# Altium integrated library Infineon_Power_Motor_Driver.IntLib: 100 symbols (part 2 of 7)
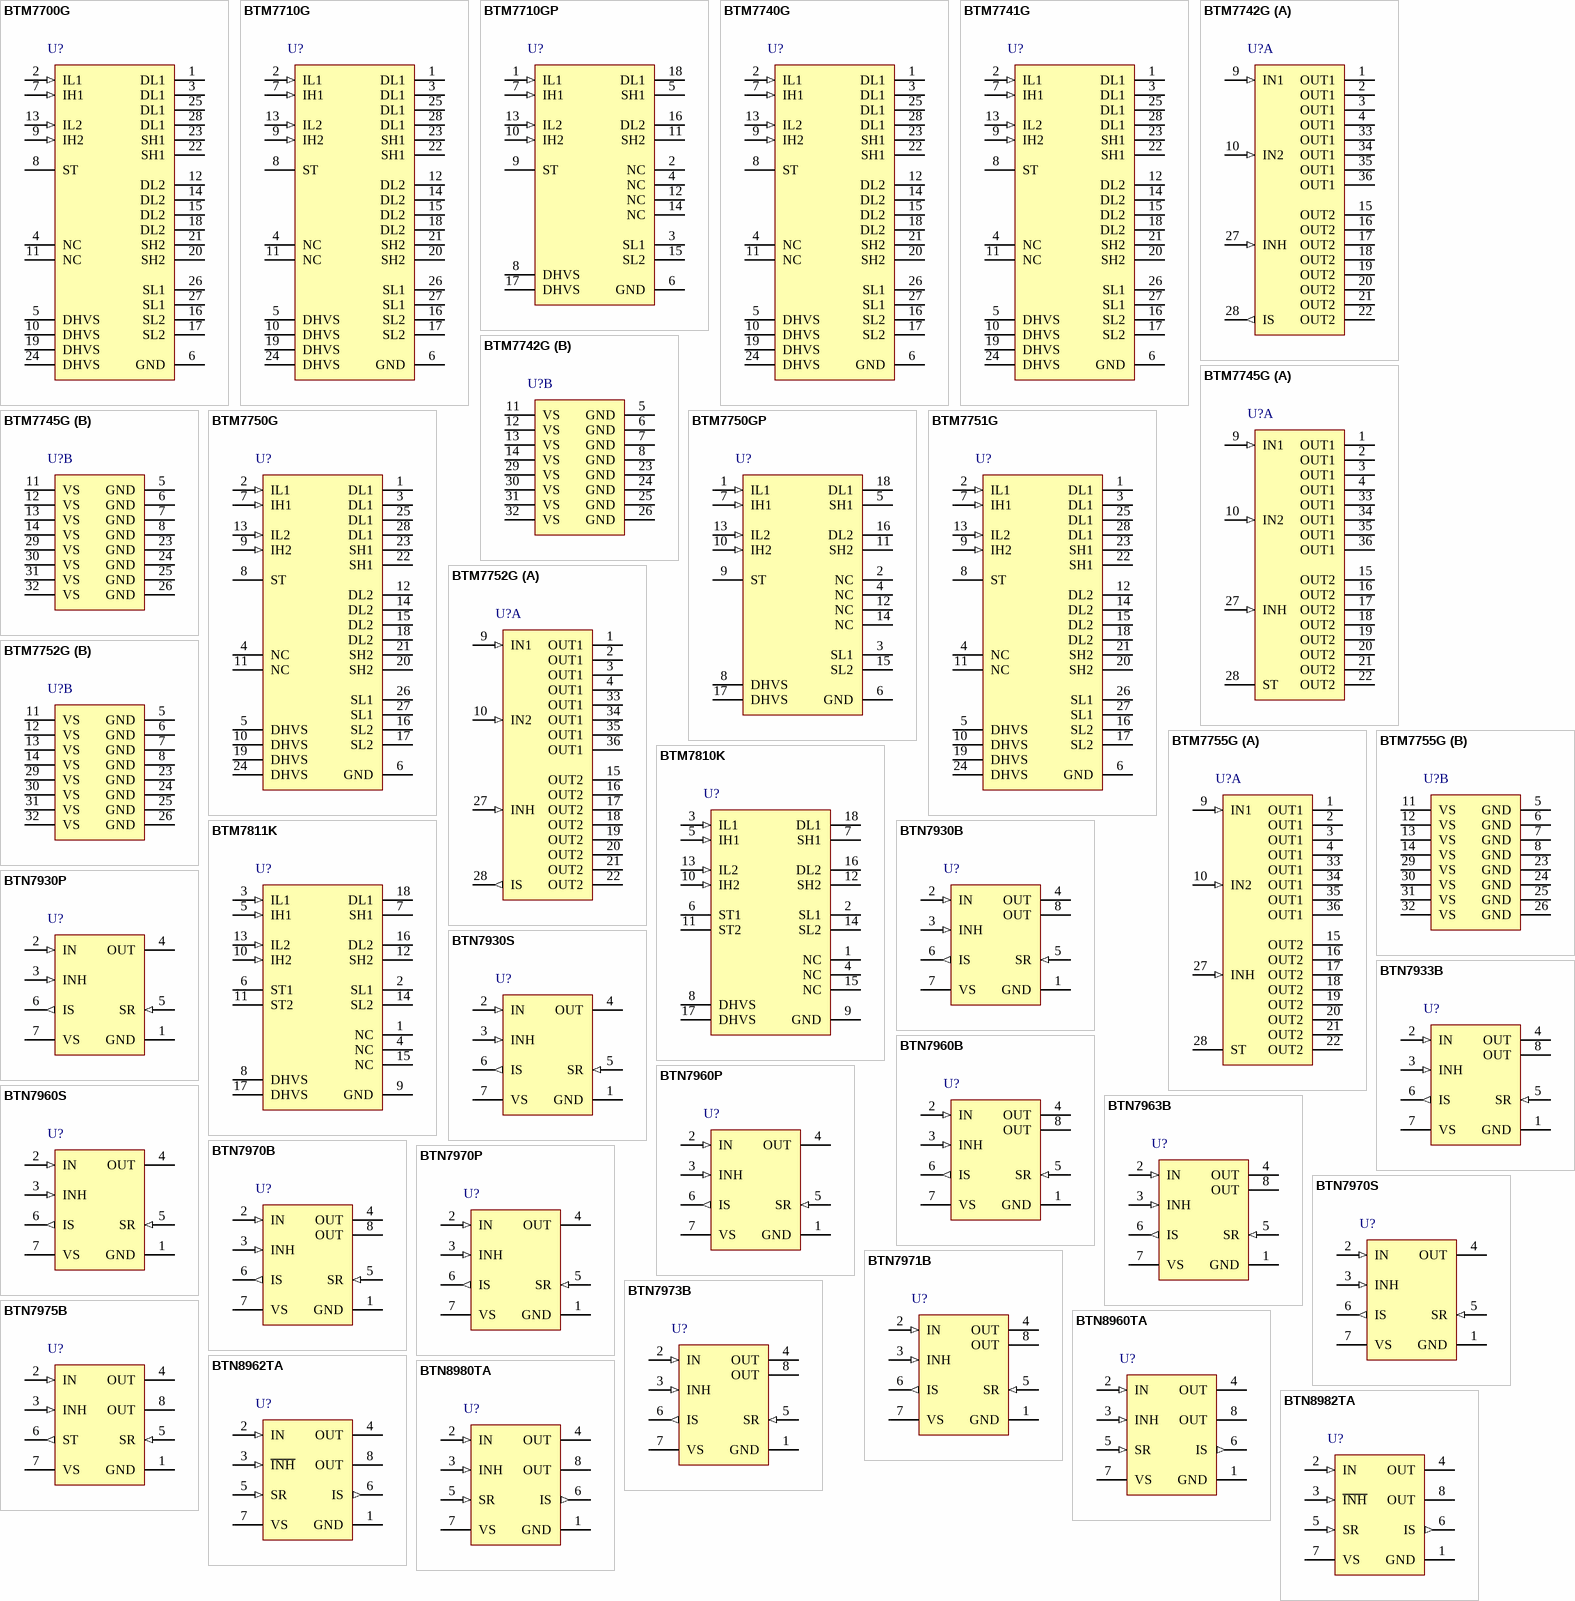
[diagram p5: symbols BTM7700G to BTN8982TA]

## BTN7930S
designator U?
High Current PN Half Bridge NovalithIC, 5.5 to 28 V, -40 to 150 degC, PG-TO220-7-12, Tube, Green; Manufacturer: Infineon; PartNumber: BTN7930S; Green: TRUE; ID(lim): 32 A; ID(lim) (min): 20 A; Iq (typ): 7 uA; Protect: OV, UV, OT, OC; RDS(on) (typ): 28.2 mOhm; VS (max): 45 V; DatasheetVersion: Rev. 1.1; PackageVersion: Jul-07; PackageReference: PG-TO220-7-12; PackageDescription: 7-Pin Plastic (Green) Transistor Single Outline Package, 10 x 9.25 mm Body, 1.27 mm Pitch; Supplier 1: Mouser; Supplier Part Number 1: 726-BTN7930S; Supplier 2: Digi-Key; Supplier Part Number 2: BTN7930S-ND; Group: NovalithIC; Halogen-free: TRUE; Inhibit: TRUE; Operating Range: 5.5 to 28 V; Mounting Technology: Through Hole; ComponentLink1Description: Manufacturer URL; ComponentLink1URL: http://www.infineon.com/; ComponentLink2Description: Datasheet; ComponentLink2URL: http://www.infineon.com/dgdl/BTN7930_DS_11.pdf?folderId=db3a3043156fd5730116144c5d101c30&fileId=db3a304316f66ee80117641dba046a6e&location=en.Products.Automotive_ICs.Motor_Drivers__Automotive_.Integrated_High_Current_Motor_Drivers__NovalithIC____Trilith_IC_.DATASHEET.BTN7930_DS_11.pdf; ComponentLink3Description: Package Specification; ComponentLink3URL: http://www.infineon.com/dgdl/TLE5205-2_DS_11%5B1%5D.pdf?folderId=db3a30431b3e89eb011bb632994f065b&fileId=db3a30431f848401011fc747c7a0797f&sId=db3a30433d68e984013d7d43135b5b6a
footprint INF-PG-TO220-7-12 (FM, 7-Leads, Body 10x4.4mm, Pitch 1.27mm)
pins: 1 GND (power) "Ground", 2 IN (in) "Input Defines whether high- or lowside switch is activated", 3 INH (in) "Inhibit When set to low device goes in sleep mode", 4 OUT (power) "Power output of the bridge", 5 SR (in) "Slew Rate The slew rate of the power switches can be adjusted by connecting a resistor between SR and GND", 6 IS (out) "Current Sense and Diagnostics", 7 VS (power) "Supply"

## BTN7933B
designator U?
High Current PN Half Bridge NovalithIC, 4.5 to 28 V, -40 to 150 degC, PG-TO263-7-1, Reel, Green; Manufacturer: Infineon; PartNumber: BTN7933B; Green: TRUE; ID(lim): 32 A; ID(lim) (min): 20 A; Iq (typ): 7 uA; Protect: OV(SCL), UV, OT, OC; RDS(on) (typ): 28 mOhm; VS (max): 40 V; DatasheetVersion: Rev. 1.0; PackageVersion: May-07; PackageReference: PG-TO263-7-1; PackageDescription: 7-Pin Plastic (Green) Transistor Single Outline Package, 9.25 x 10 mm Body, 1.27 mm Pitch; Supplier 1: Mouser; Supplier Part Number 1: 726-BTN7933B; Supplier 2: Digi-Key; Supplier Part Number 2: BTN7933B-ND; Group: NovalithIC; Halogen-free: TRUE; Inhibit: TRUE; Operating Range: 4.5 to 28 V; Mounting Technology: Surface Mount; ComponentLink1Description: Manufacturer URL; ComponentLink1URL: http://www.infineon.com/; ComponentLink2Description: Datasheet; ComponentLink2URL: http://www.infineon.com/dgdl/BTN7933B_DS_10.pdf?folderId=db3a304412b407950112b408e8c90004&fileId=db3a304325afd6e001262cf7009b428c&location=en.Products.Automotive_ICs.Motor_Drivers__Automotive_.Integrated_High_Current_Motor_Drivers__NovalithIC____Trilith_IC_.DATASHEET.BTN7933B_DS_10.pdf; ComponentLink3Description: Package Specification; ComponentLink3URL: http://www.infineon.com/dgdl/TLE5205-2_DS_11%5B1%5D.pdf?folderId=db3a30431b3e89eb011bb632994f065b&fileId=db3a30431f848401011fc747c7a0797f&sId=db3a30433d68e984013d7d43135b5b6a
footprint INF-PG-TO263-7-1_N (DPAK, 8-Leads, Body 10x9.25mm, Pitch 1.27mm, IPC Medium Density)
footprint INF-PG-TO263-7-1_L (DPAK, 8-Leads, Body 10x9.25mm, Pitch 1.27mm, IPC High Density)
footprint INF-PG-TO263-7-1_M (DPAK, 8-Leads, Body 10x9.25mm, Pitch 1.27mm, IPC Low Density)
pins: 1 GND (power) "Ground", 2 IN (in) "Input Defines whether high- or lowside switch is activated", 3 INH (in) "Inhibit When set to low device goes in sleep mode", 4 OUT (power) "Power output of the bridge", 5 SR (in) "Slew Rate The slew rate of the power switches can be adjusted by connecting a resistor between SR and GND", 6 IS (out) "Current Sense and Diagnostics", 7 VS (power) "Supply", 8 OUT (power) "Power output of the bridge"

## BTN7960B
designator U?
High Current PN Half Bridge NovalithIC, 5.5 to 28 V, -40 to 150 degC, PG-TO263-7-1, Reel, Green; Manufacturer: Infineon; PartNumber: BTN7960B; Green: TRUE; ID(lim): 47 A; ID(lim) (min): 33 A; Iq (typ): 7 uA; Protect: OV, UV, OT, OC; RDS(on) (typ): 14 mOhm; VS (max): 45 V; DatasheetVersion: Rev. 1.1; PackageVersion: May-07; PackageReference: PG-TO263-7-1; PackageDescription: 7-Pin Plastic (Green) Transistor Single Outline Package, 9.25 x 10 mm Body, 1.27 mm Pitch; Supplier 1: Mouser; Supplier Part Number 1: 726-BTN7960B; Supplier 2: Digi-Key; Supplier Part Number 2: BTN7960BTR-ND; Supplier 3: Digi-Key; Supplier Part Number 3: BTN7960BCT-ND; Supplier 4: Digi-Key; Supplier Part Number 4: BTN7960BDKR-ND; Group: NovalithIC; Halogen-free: TRUE; Inhibit: TRUE; Operating Range: 5.5 to 28 V; Mounting Technology: Surface Mount; ComponentLink1Description: Manufacturer URL; ComponentLink1URL: http://www.infineon.com/; ComponentLink2Description: Datasheet; ComponentLink2URL: http://www.infineon.com/dgdl/BTN7960_DS_11.pdf?folderId=db3a3043156fd5730116144c5d101c30&fileId=db3a304316f66ee80117642084e76a7c&location=en.Products.Automotive_ICs.Motor_Drivers__Automotive_.Integrated_High_Current_Motor_Drivers__NovalithIC____Trilith_IC_.DATASHEET.BTN7960_DS_11.pdf; ComponentLink3Description: Package Specification; ComponentLink3URL: http://www.infineon.com/dgdl/TLE5205-2_DS_11%5B1%5D.pdf?folderId=db3a30431b3e89eb011bb632994f065b&fileId=db3a30431f848401011fc747c7a0797f&sId=db3a30433d68e984013d7d43135b5b6a
footprint INF-PG-TO263-7-1_N (DPAK, 8-Leads, Body 10x9.25mm, Pitch 1.27mm, IPC Medium Density)
footprint INF-PG-TO263-7-1_L (DPAK, 8-Leads, Body 10x9.25mm, Pitch 1.27mm, IPC High Density)
footprint INF-PG-TO263-7-1_M (DPAK, 8-Leads, Body 10x9.25mm, Pitch 1.27mm, IPC Low Density)
pins: 1 GND (power) "Ground", 2 IN (in) "Input Defines whether high- or lowside switch is activated", 3 INH (in) "Inhibit When set to low device goes in sleep mode", 4 OUT (power) "Power output of the bridge", 5 SR (in) "Slew Rate The slew rate of the power switches can be adjusted by connecting a resistor between SR and GND", 6 IS (out) "Current Sense and Diagnostics", 7 VS (power) "Supply", 8 OUT (power) "Power output of the bridge"

## BTN7960P
designator U?
High Current PN Half Bridge NovalithIC, 5.5 to 28 V, -40 to 150 degC, PG-TO220-7-11, Tube, Green; Manufacturer: Infineon; PartNumber: BTN7960P; Green: TRUE; ID(lim): 47 A; ID(lim) (min): 33 A; Iq (typ): 7 uA; Protect: OV, UV, OT, OC; RDS(on) (typ): 17.6 mOhm; VS (max): 45 V; DatasheetVersion: Rev. 1.1; PackageVersion: Jul-07; PackageReference: PG-TO220-7-11; PackageDescription: 7-Pin Plastic (Green) Transistor Single Outline Package, 10 x 9.25 mm Body, 1.27 mm Pitch; Supplier 1: Mouser; Supplier Part Number 1: 726-BTN7960P; Supplier 2: Newark; Supplier Part Number 2: 47W3379; Supplier 3: Farnell; Supplier Part Number 3: 2215545; Supplier 4: Digi-Key; Supplier Part Number 4: BTN7960P-ND; Group: NovalithIC; Halogen-free: TRUE; Inhibit: TRUE; Operating Range: 5.5 to 28 V; Mounting Technology: Through Hole; ComponentLink1Description: Manufacturer URL; ComponentLink1URL: http://www.infineon.com/; ComponentLink2Description: Datasheet; ComponentLink2URL: http://www.infineon.com/dgdl/BTN7960_DS_11.pdf?folderId=db3a3043156fd5730116144c5d101c30&fileId=db3a304316f66ee80117642084e76a7c&location=en.Products.Automotive_ICs.Motor_Drivers__Automotive_.Integrated_High_Current_Motor_Drivers__NovalithIC____Trilith_IC_.DATASHEET.BTN7960_DS_11.pdf; ComponentLink3Description: Package Specification; ComponentLink3URL: http://www.infineon.com/dgdl/TLE5205-2_DS_11%5B1%5D.pdf?folderId=db3a30431b3e89eb011bb632994f065b&fileId=db3a30431f848401011fc747c7a0797f&sId=db3a30433d68e984013d7d43135b5b6a
footprint INF-PG-TO220-7-11 (FM, 7-Leads, Body 10x9.25mm, Pitch 1.27mm)
pins: 1 GND (power) "Ground", 2 IN (in) "Input Defines whether high- or lowside switch is activated", 3 INH (in) "Inhibit When set to low device goes in sleep mode", 4 OUT (power) "Power output of the bridge", 5 SR (in) "Slew Rate The slew rate of the power switches can be adjusted by connecting a resistor between SR and GND", 6 IS (out) "Current Sense and Diagnostics", 7 VS (power) "Supply"

## BTN7960S
designator U?
High Current PN Half Bridge NovalithIC, 5.5 to 28 V, -40 to 150 degC, PG-TO220-7-12, Tube, Green; Manufacturer: Infineon; PartNumber: BTN7960S; Green: TRUE; ID(lim): 47 A; ID(lim) (min): 33 A; Iq (typ): 7 uA; Protect: OV, UV, OT, OC; RDS(on) (typ): 16.2 mOhm; VS (max): 45 V; DatasheetVersion: Rev. 1.1; PackageVersion: Jul-07; PackageReference: PG-TO220-7-12; PackageDescription: 7-Pin Plastic (Green) Transistor Single Outline Package, 10 x 9.25 mm Body, 1.27 mm Pitch; Supplier 1: Mouser; Supplier Part Number 1: 726-BTN7960S; Supplier 2: Digi-Key; Supplier Part Number 2: BTN7960S-ND; Group: NovalithIC; Halogen-free: TRUE; Inhibit: TRUE; Operating Range: 5.5 to 28 V; Mounting Technology: Through Hole; ComponentLink1Description: Manufacturer URL; ComponentLink1URL: http://www.infineon.com/; ComponentLink2Description: Datasheet; ComponentLink2URL: http://www.infineon.com/dgdl/BTN7960_DS_11.pdf?folderId=db3a3043156fd5730116144c5d101c30&fileId=db3a304316f66ee80117642084e76a7c&location=en.Products.Automotive_ICs.Motor_Drivers__Automotive_.Integrated_High_Current_Motor_Drivers__NovalithIC____Trilith_IC_.DATASHEET.BTN7960_DS_11.pdf; ComponentLink3Description: Package Specification; ComponentLink3URL: http://www.infineon.com/dgdl/TLE5205-2_DS_11%5B1%5D.pdf?folderId=db3a30431b3e89eb011bb632994f065b&fileId=db3a30431f848401011fc747c7a0797f&sId=db3a30433d68e984013d7d43135b5b6a
footprint INF-PG-TO220-7-12 (FM, 7-Leads, Body 10x4.4mm, Pitch 1.27mm)
pins: 1 GND (power) "Ground", 2 IN (in) "Input Defines whether high- or lowside switch is activated", 3 INH (in) "Inhibit When set to low device goes in sleep mode", 4 OUT (power) "Power output of the bridge", 5 SR (in) "Slew Rate The slew rate of the power switches can be adjusted by connecting a resistor between SR and GND", 6 IS (out) "Current Sense and Diagnostics", 7 VS (power) "Supply"

## BTN7963B
designator U?
High Current PN Half Bridge NovalithIC, 4.5 to 28 V, -40 to 150 degC, PG-TO263-7-1, Reel, Green; Manufacturer: Infineon; PartNumber: BTN7963B; Green: TRUE; ID(lim): 47 A; ID(lim) (min): 33 A; Iq (typ): 7 uA; Protect: OV(SCL), UV, OT, OC; RDS(on) (typ): 16 mOhm; VS (max): 40 V; DatasheetVersion: Rev. 1.0; PackageVersion: May-07; PackageReference: PG-TO263-7-1; PackageDescription: 7-Pin Plastic (Green) Transistor Single Outline Package, 9.25 x 10 mm Body, 1.27 mm Pitch; Supplier 1: Mouser; Supplier Part Number 1: 726-BTN7963B; Supplier 2: Digi-Key; Supplier Part Number 2: BTN7963B-ND; Group: NovalithIC; Halogen-free: TRUE; Inhibit: TRUE; Operating Range: 4.5 to 28 V; Mounting Technology: Surface Mount; ComponentLink1Description: Manufacturer URL; ComponentLink1URL: http://www.infineon.com/; ComponentLink2Description: Datasheet; ComponentLink2URL: http://www.infineon.com/dgdl/BTN7963B_DS_10.pdf?folderId=db3a304412b407950112b408e8c90004&fileId=db3a304325afd6e001262cd8fe20427c&location=en.Products.Automotive_ICs.Motor_Drivers__Automotive_.Integrated_High_Current_Motor_Drivers__NovalithIC____Trilith_IC_.DATASHEET.BTN7963B_DS_10.pdf; ComponentLink3Description: Package Specification; ComponentLink3URL: http://www.infineon.com/dgdl/TLE5205-2_DS_11%5B1%5D.pdf?folderId=db3a30431b3e89eb011bb632994f065b&fileId=db3a30431f848401011fc747c7a0797f&sId=db3a30433d68e984013d7d43135b5b6a
footprint INF-PG-TO263-7-1_N (DPAK, 8-Leads, Body 10x9.25mm, Pitch 1.27mm, IPC Medium Density)
footprint INF-PG-TO263-7-1_L (DPAK, 8-Leads, Body 10x9.25mm, Pitch 1.27mm, IPC High Density)
footprint INF-PG-TO263-7-1_M (DPAK, 8-Leads, Body 10x9.25mm, Pitch 1.27mm, IPC Low Density)
pins: 1 GND (power) "Ground", 2 IN (in) "Input Defines whether high- or lowside switch is activated", 3 INH (in) "Inhibit When set to low device goes in sleep mode", 4 OUT (power) "Power output of the bridge", 5 SR (in) "Slew Rate The slew rate of the power switches can be adjusted by connecting a resistor between SR and GND", 6 IS (out) "Current Sense and Diagnostics", 7 VS (power) "Supply", 8 OUT (power) "Power output of the bridge"

## BTN7970B
designator U?
High Current PN Half Bridge NovalithIC, 5.5 to 28 V, -40 to 150 degC, PG-TO263-7-1, Reel, Green; Manufacturer: Infineon; PartNumber: BTN7970B; Green: TRUE; ID(lim): 70 A; ID(lim) (min): 50 A; Iq (typ): 7 uA; Protect: OV, UV, OT, OC; RDS(on) (typ): 16 m Ohm; VS (max): 45 V; DatasheetVersion: Rev. 1.1; PackageVersion: May-07; PackageReference: PG-TO263-7-1; PackageDescription: 7-Pin Plastic (Green) Transistor Single Outline Package, 9.25 x 10 mm Body, 1.27 mm Pitch; Supplier 1: Mouser; Supplier Part Number 1: 726-BTN7970B; Supplier 2: Digi-Key; Supplier Part Number 2: BTN7970BTR-ND; Supplier 3: Digi-Key; Supplier Part Number 3: BTN7970BCT-ND; Supplier 4: Digi-Key; Supplier Part Number 4: BTN7970BDKR-ND; Group: NovalithIC; Halogen-free: TRUE; Inhibit: TRUE; Operating Range: 5.5 to 28 V; Mounting Technology: Surface Mount; ComponentLink1Description: Manufacturer URL; ComponentLink1URL: http://www.infineon.com/; ComponentLink2Description: Datasheet; ComponentLink2URL: http://www.infineon.com/dgdl/BTN7970_DS_11.pdf?folderId=db3a3043156fd5730116144c5d101c30&fileId=db3a304316f66ee80117642373746a89&location=en.Products.Automotive_ICs.Motor_Drivers__Automotive_.Integrated_High_Current_Motor_Drivers__NovalithIC____Trilith_IC_.DATASHEET.BTN7970_DS_11.pdf; ComponentLink3Description: Package Specification; ComponentLink3URL: http://www.infineon.com/dgdl/TLE5205-2_DS_11%5B1%5D.pdf?folderId=db3a30431b3e89eb011bb632994f065b&fileId=db3a30431f848401011fc747c7a0797f&sId=db3a30433d68e984013d7d43135b5b6a
footprint INF-PG-TO263-7-1_N (DPAK, 8-Leads, Body 10x9.25mm, Pitch 1.27mm, IPC Medium Density)
footprint INF-PG-TO263-7-1_L (DPAK, 8-Leads, Body 10x9.25mm, Pitch 1.27mm, IPC High Density)
footprint INF-PG-TO263-7-1_M (DPAK, 8-Leads, Body 10x9.25mm, Pitch 1.27mm, IPC Low Density)
pins: 1 GND (power) "Ground", 2 IN (in) "Input Defines whether high- or lowside switch is activated", 3 INH (in) "Inhibit When set to low device goes in sleep mode", 4 OUT (power) "Power output of the bridge", 5 SR (in) "Slew Rate The slew rate of the power switches can be adjusted by connecting a resistor between SR and GND", 6 IS (out) "Current Sense and Diagnostics", 7 VS (power) "Supply", 8 OUT (power) "Power output of the bridge"

## BTN7970P
designator U?
High Current PN Half Bridge NovalithIC, 5.5 to 28 V, -40 to 150 degC, PG-TO220-7-11, Tube, Green; Manufacturer: Infineon; PartNumber: BTN7970P; Green: TRUE; ID(lim): 70 A; ID(lim) (min): 50 A; Iq (typ): 7 uA; Protect: OV, UV, OT, OC; RDS(on) (typ): 17.6 m Ohm; VS (max): 45 V; DatasheetVersion: Rev. 1.1; PackageVersion: Jul-07; PackageReference: PG-TO220-7-11; PackageDescription: 7-Pin Plastic (Green) Transistor Single Outline Package, 10 x 9.25 mm Body, 1.27 mm Pitch; Supplier 1: Mouser; Supplier Part Number 1: 726-BTN7970P; Supplier 2: Newark; Supplier Part Number 2: 47W3380; Supplier 3: Farnell; Supplier Part Number 3: 2215543; Supplier 4: Digi-Key; Supplier Part Number 4: BTN7970P-ND; Group: NovalithIC; Halogen-free: TRUE; Inhibit: TRUE; Operating Range: 5.5 to 28 V; Mounting Technology: Through Hole; ComponentLink1Description: Manufacturer URL; ComponentLink1URL: http://www.infineon.com/; ComponentLink2Description: Datasheet; ComponentLink2URL: http://www.infineon.com/dgdl/BTN7970_DS_11.pdf?folderId=db3a3043156fd5730116144c5d101c30&fileId=db3a304316f66ee80117642373746a89&location=en.Products.Automotive_ICs.Motor_Drivers__Automotive_.Integrated_High_Current_Motor_Drivers__NovalithIC____Trilith_IC_.DATASHEET.BTN7970_DS_11.pdf; ComponentLink3Description: Package Specification; ComponentLink3URL: http://www.infineon.com/dgdl/TLE5205-2_DS_11%5B1%5D.pdf?folderId=db3a30431b3e89eb011bb632994f065b&fileId=db3a30431f848401011fc747c7a0797f&sId=db3a30433d68e984013d7d43135b5b6a
footprint INF-PG-TO220-7-11 (FM, 7-Leads, Body 10x9.25mm, Pitch 1.27mm)
pins: 1 GND (power) "Ground", 2 IN (in) "Input Defines whether high- or lowside switch is activated", 3 INH (in) "Inhibit When set to low device goes in sleep mode", 4 OUT (power) "Power output of the bridge", 5 SR (in) "Slew Rate The slew rate of the power switches can be adjusted by connecting a resistor between SR and GND", 6 IS (out) "Current Sense and Diagnostics", 7 VS (power) "Supply"

## BTN7970S
designator U?
High Current PN Half Bridge NovalithIC, 5.5 to 28 V, -40 to 150 degC, PG-TO220-7-12, Tube, Green; Manufacturer: Infineon; PartNumber: BTN7970S; Green: TRUE; ID(lim): 70 A; ID(lim) (min): 50 A; Iq (typ): 7 uA; Protect: OV, UV, OT, OC; RDS(on) (typ): 16.2 m Ohm; VS (max): 45 V; DatasheetVersion: Rev. 1.1; PackageVersion: Jul-07; PackageReference: PG-TO220-7-12; PackageDescription: 7-Pin Plastic (Green) Transistor Single Outline Package, 10 x 9.25 mm Body, 1.27 mm Pitch; Supplier 1: Mouser; Supplier Part Number 1: 726-BTN7970S; Supplier 2: Digi-Key; Supplier Part Number 2: BTN7970S-ND; Group: NovalithIC; Halogen-free: TRUE; Inhibit: TRUE; Operating Range: 5.5 to 28 V; Mounting Technology: Through Hole; ComponentLink1Description: Manufacturer URL; ComponentLink1URL: http://www.infineon.com/; ComponentLink2Description: Datasheet; ComponentLink2URL: http://www.infineon.com/dgdl/BTN7970_DS_11.pdf?folderId=db3a3043156fd5730116144c5d101c30&fileId=db3a304316f66ee80117642373746a89&location=en.Products.Automotive_ICs.Motor_Drivers__Automotive_.Integrated_High_Current_Motor_Drivers__NovalithIC____Trilith_IC_.DATASHEET.BTN7970_DS_11.pdf; ComponentLink3Description: Package Specification; ComponentLink3URL: http://www.infineon.com/dgdl/TLE5205-2_DS_11%5B1%5D.pdf?folderId=db3a30431b3e89eb011bb632994f065b&fileId=db3a30431f848401011fc747c7a0797f&sId=db3a30433d68e984013d7d43135b5b6a
footprint INF-PG-TO220-7-12 (FM, 7-Leads, Body 10x4.4mm, Pitch 1.27mm)
pins: 1 GND (power) "Ground", 2 IN (in) "Input Defines whether high- or lowside switch is activated", 3 INH (in) "Inhibit When set to low device goes in sleep mode", 4 OUT (power) "Power output of the bridge", 5 SR (in) "Slew Rate The slew rate of the power switches can be adjusted by connecting a resistor between SR and GND", 6 IS (out) "Current Sense and Diagnostics", 7 VS (power) "Supply"

## BTN7971B
designator U?
High Current PN Half Bridge NovalithIC, 4.5 to 28 V, -40 to 150 degC, PG-TO263-7-1, Reel, Green; Manufacturer: Infineon; PartNumber: BTN7971B; Green: TRUE; ID(lim): 70 A; ID(lim) (min): 50 A; Iq (typ): 7 uA; Protect: OV, UV, OT, OC; RDS(on) (typ): 16 m Ohm; VS (max): 45 V; DatasheetVersion: Rev. 2.0; PackageVersion: May-07; PackageReference: PG-TO263-7-1; PackageDescription: 7-Pin Plastic (Green) Transistor Single Outline Package, 9.25 x 10 mm Body, 1.27 mm Pitch; Supplier 1: Mouser; Supplier Part Number 1: 726-BTN7971B; Supplier 2: Digi-Key; Supplier Part Number 2: BTN7971BTR-ND; Supplier 3: Digi-Key; Supplier Part Number 3: BTN7971BCT-ND; Supplier 4: Digi-Key; Supplier Part Number 4: BTN7971BDKR-ND; Group: NovalithIC; Halogen-free: TRUE; Inhibit: TRUE; Operating Range: 4.5 to 28 V; Mounting Technology: Surface Mount; ComponentLink1Description: Manufacturer URL; ComponentLink1URL: http://www.infineon.com/; ComponentLink2Description: Datasheet; ComponentLink2URL: http://www.infineon.com/dgdl/BTN7971B_DS_20.pdf?folderId=db3a3043156fd5730116144c5d101c30&fileId=db3a30431add1d95011aee02ab870358&location=en.Products.Automotive_ICs.Motor_Drivers__Automotive_.Integrated_High_Current_Motor_Drivers__NovalithIC____Trilith_IC_.DATASHEET.BTN7971B_DS_20.pdf; ComponentLink3Description: Package Specification; ComponentLink3URL: http://www.infineon.com/dgdl/TLE5205-2_DS_11%5B1%5D.pdf?folderId=db3a30431b3e89eb011bb632994f065b&fileId=db3a30431f848401011fc747c7a0797f&sId=db3a30433d68e984013d7d43135b5b6a
footprint INF-PG-TO263-7-1_N (DPAK, 8-Leads, Body 10x9.25mm, Pitch 1.27mm, IPC Medium Density)
footprint INF-PG-TO263-7-1_L (DPAK, 8-Leads, Body 10x9.25mm, Pitch 1.27mm, IPC High Density)
footprint INF-PG-TO263-7-1_M (DPAK, 8-Leads, Body 10x9.25mm, Pitch 1.27mm, IPC Low Density)
pins: 1 GND (power) "Ground", 2 IN (in) "Input Defines whether high- or lowside switch is activated", 3 INH (in) "Inhibit When set to low device goes in sleep mode", 4 OUT (power) "Power output of the bridge", 5 SR (in) "Slew Rate The slew rate of the power switches can be adjusted by connecting a resistor between SR and GND", 6 IS (out) "Current Sense and Diagnostics", 7 VS (power) "Supply", 8 OUT (power) "Power output of the bridge"

## BTN7973B
designator U?
High Current PN Half Bridge NovalithIC, 4.5 to 28 V, -40 to 150 degC, PG-TO263-7-1, Reel, Green; Manufacturer: Infineon; PartNumber: BTN7973B; Green: TRUE; ID(lim): 70 A; ID(lim) (min): 50 A; Iq (typ): 7 uA; Protect: OV(SCL), UV, OT, OC; RDS(on) (typ): 16 m Ohm; VS (max): 40 V; DatasheetVersion: Rev. 1.0; PackageVersion: May-07; PackageReference: PG-TO263-7-1; PackageDescription: 7-Pin Plastic (Green) Transistor Single Outline Package, 9.25 x 10 mm Body, 1.27 mm Pitch; Supplier 1: Mouser; Supplier Part Number 1: 726-BTN7973B; Supplier 2: Digi-Key; Supplier Part Number 2: BTN7973B-ND; Group: NovalithIC; Halogen-free: TRUE; Inhibit: TRUE; Operating Range: 4.5 to 28 V; Mounting Technology: Surface Mount; ComponentLink1Description: Manufacturer URL; ComponentLink1URL: http://www.infineon.com/; ComponentLink2Description: Datasheet; ComponentLink2URL: http://www.infineon.com/dgdl/BTN7973B_DS_10.pdf?folderId=db3a304412b407950112b408e8c90004&fileId=db3a304325afd6e001262cc953af426c&location=en.Products.Automotive_ICs.Motor_Drivers__Automotive_.Integrated_High_Current_Motor_Drivers__NovalithIC____Trilith_IC_.DATASHEET.BTN7973B_DS_10.pdf; ComponentLink3Description: Package Specification; ComponentLink3URL: http://www.infineon.com/dgdl/TLE5205-2_DS_11%5B1%5D.pdf?folderId=db3a30431b3e89eb011bb632994f065b&fileId=db3a30431f848401011fc747c7a0797f&sId=db3a30433d68e984013d7d43135b5b6a
footprint INF-PG-TO263-7-1_N (DPAK, 8-Leads, Body 10x9.25mm, Pitch 1.27mm, IPC Medium Density)
footprint INF-PG-TO263-7-1_L (DPAK, 8-Leads, Body 10x9.25mm, Pitch 1.27mm, IPC High Density)
footprint INF-PG-TO263-7-1_M (DPAK, 8-Leads, Body 10x9.25mm, Pitch 1.27mm, IPC Low Density)
pins: 1 GND (power) "Ground", 2 IN (in) "Input Defines whether high- or lowside switch is activated", 3 INH (in) "Inhibit When set to low device goes in sleep mode", 4 OUT (power) "Power output of the bridge", 5 SR (in) "Slew Rate The slew rate of the power switches can be adjusted by connecting a resistor between SR and GND", 6 IS (out) "Current Sense and Diagnostics", 7 VS (power) "Supply", 8 OUT (power) "Power output of the bridge"

## BTN7975B
designator U?
High Current PN Half Bridge NovalithIC, 5.5 to 28 V, -40 to 150 degC, PG-TO263-7-1, Reel, Green; Manufacturer: Infineon; PartNumber: BTN7975B; Green: TRUE; ID(lim): 70 A; ID(lim) (min): 50 A; Iq (typ): 7 uA; Protect: OV, UV, OT, OC; RDS(on) (typ): 16 m Ohm; VS (max): 45 V; DatasheetVersion: Rev. 1.0; PackageVersion: May-07; PackageReference: PG-TO263-7-1; PackageDescription: 7-Pin Plastic (Green) Transistor Single Outline Package, 9.25 x 10 mm Body, 1.27 mm Pitch; Supplier 1: Mouser; Supplier Part Number 1: N/A; Group: NovalithIC; Halogen-free: TRUE; Inhibit: TRUE; Operating Range: 5.5 to 28 V; Mounting Technology: Surface Mount; ComponentLink1Description: Manufacturer URL; ComponentLink1URL: http://www.infineon.com/; ComponentLink2Description: Datasheet; ComponentLink2URL: http://www.infineon.com/dgdl/BTN7975B_DS_10.pdf?folderId=db3a3043156fd5730116144c5d101c30&fileId=db3a304320d39d590121f2ad366c0a97&location=en.Products.Automotive_ICs.Motor_Drivers__Automotive_.Integrated_High_Current_Motor_Drivers__NovalithIC____Trilith_IC_.DATASHEET.BTN7975B_DS_10.pdf; ComponentLink3Description: Package Specification; ComponentLink3URL: http://www.infineon.com/dgdl/TLE5205-2_DS_11%5B1%5D.pdf?folderId=db3a30431b3e89eb011bb632994f065b&fileId=db3a30431f848401011fc747c7a0797f&sId=db3a30433d68e984013d7d43135b5b6a
footprint INF-PG-TO263-7-1_N (DPAK, 8-Leads, Body 10x9.25mm, Pitch 1.27mm, IPC Medium Density)
footprint INF-PG-TO263-7-1_L (DPAK, 8-Leads, Body 10x9.25mm, Pitch 1.27mm, IPC High Density)
footprint INF-PG-TO263-7-1_M (DPAK, 8-Leads, Body 10x9.25mm, Pitch 1.27mm, IPC Low Density)
pins: 1 GND (power) "Ground", 2 IN (in) "Input Defines whether high- or lowside switch is activated", 3 INH (in) "Inhibit When set to low device goes in sleep mode", 4 OUT (power) "Power output of the bridge", 5 SR (in) "Slew Rate The slew rate of the power switches can be adjusted by connecting a resistor between SR and GND", 6 ST (out) "Status Flag", 7 VS (power) "Supply", 8 OUT (power) "Power output of the bridge"

## BTN8960TA
designator U?
High Current PN Half Bridge NovalithIC, -40 to 150 degC, PG-TO263-7-1, Reel, Green; Manufacturer: Infineon; PartNumber: BTN8960TA; Green: TRUE; High Side Switch: 0.6 K/W; Iq (typ): 7 uA; Quiescent Current (max.): 13 uA; DatasheetVersion: Rev. 1.0; PackageVersion: May-07; PackageReference: PG-TO263-7-1; PackageDescription: 7-Pin Plastic (Green) Transistor Single Outline Package, 9.25 x 10 mm Body, 1.27 mm Pitch; Halogen-free: TRUE; Packing: Reel; Mounting Technology: Surface Mount; ComponentLink1Description: Manufacturer URL; ComponentLink1URL: http://www.infineon.com/; ComponentLink2Description: Datasheet; ComponentLink2URL: http://www.infineon.com/dgdl/BTN8960TA-Data-Sheet-rev10-Infineon.pdf?folderId=db3a30431f848401011fcbf221ff04c3&fileId=db3a30433da668b6013da699aef80054; ComponentLink3Description: Package Specification; ComponentLink3URL: http://www.infineon.com/dgdl/TLE5205-2_DS_11%5B1%5D.pdf?folderId=db3a30431b3e89eb011bb632994f065b&fileId=db3a30431f848401011fc747c7a0797f&sId=db3a30433d68e984013d7d43135b5b6a
footprint INF-PG-TO263-7-1_N (DPAK, 8-Leads, Body 10x9.25mm, Pitch 1.27mm, IPC Medium Density)
footprint INF-PG-TO263-7-1_L (DPAK, 8-Leads, Body 10x9.25mm, Pitch 1.27mm, IPC High Density)
footprint INF-PG-TO263-7-1_M (DPAK, 8-Leads, Body 10x9.25mm, Pitch 1.27mm, IPC Low Density)
pins: 1 GND (power) "Ground", 2 IN (in) "Input Defines whether high- or lowside switch is activated", 3 INH (in) "Inhibit  When set to low device goes in sleep mode", 4 OUT (power) "Power output of the bridge", 5 SR (in) "Slew Rate The slew rate of the power switches can be adjusted by connecting  a resistor between SR and GND", 6 IS (out) "Current Sense and Diagnostics", 7 VS (power) "Supply", 8 OUT (power) "Power output of the bridge"

## BTN8962TA
designator U?
High Current PN Half Bridge, 5.5 to 40 V, 7 uA Iq, PG-TO263-7, Reel, Green; Manufacturer: Infineon; PartNumber: BTN8962TA; Diagnosis: OT, OC-failure flag, current sense; Green: TRUE; Group: NovalithIC; ID(lim): 42 A; ID(lim) (min): 30 A; Iq (typ): 7 uA; Protect: UV, OT, OC; RDS (on): 14.2; DatasheetVersion: Rev. 1.0; PackageVersion: May-07; PackageReference: PG-TO263-7-1; PackageDescription: 7-Pin Plastic (Green) Transistor Single Outline Package, 9.25 x 10 mm Body, 1.27 mm Pitch; Supplier 1: Mouser; Supplier Part Number 1: N/A; Halogen-free: TRUE; Inhibit: TRUE; Mounting: SMT; Operating Range: 5.5 to 40 V; Packing: Reel; Mounting Technology: Surface Mount; ComponentLink1Description: Manufacturer URL; ComponentLink1URL: http://www.infineon.com/; ComponentLink2Description: Datasheet; ComponentLink2URL: http://www.infineon.com/dgdl/BTN8962TA-Data-Sheet-rev10-Infineon.pdf?folderId=db3a30431ff98815012060aedcd46179&fileId=db3a30433fa9412f013fbe2d247a7bf5; ComponentLink3Description: Package Specification; ComponentLink3URL: http://www.infineon.com/dgdl/BTN8982TA-Data-Sheet-rev10-Infineon.pdf?folderId=db3a30431ff98815012060aedcd46179&fileId=db3a30433fa9412f013fbe32289b7c17&ack=t
footprint INF-PG-TO263-7-1_N (DPAK, 8-Leads, Body 10x9.25mm, Pitch 1.27mm, IPC Medium Density)
footprint INF-PG-TO263-7-1_L (DPAK, 8-Leads, Body 10x9.25mm, Pitch 1.27mm, IPC High Density)
footprint INF-PG-TO263-7-1_M (DPAK, 8-Leads, Body 10x9.25mm, Pitch 1.27mm, IPC Low Density)
pins: 1 GND (power) "Ground", 2 IN (in) "Input, Defines whether high- or lowside switch is activated", 3 ~{INH} (in) "Inhibit, When set to low device goes in sleep mode", 4 OUT (power) "Power output of the bridge", 5 SR (in) "Slew Rate, The slew rate of the power switches can be adjusted by connecting a resistor between SR and GND", 6 IS (out) "Current Sense and Diagnostics", 7 VS (power) "Supply", 8 OUT (power) "Power output of the bridge"

## BTN8980TA
designator U?
High Current PN Half Bridge NovalithIC, -40 to 150 degC, PG-TO263-7-1, Reel, Green; Manufacturer: Infineon; PartNumber: BTN8980TA; Green: TRUE; High Side Switch: 0.55 K/W; Iq (typ): 7 uA; Quiescent Current (max.): 13 uA; DatasheetVersion: Rev. 1.0; PackageVersion: May-07; PackageReference: PG-TO263-7-1; PackageDescription: 7-Pin Plastic (Green) Transistor Single Outline Package, 9.25 x 10 mm Body, 1.27 mm Pitch; Halogen-free: TRUE; Packing: Reel; Mounting Technology: Surface Mount; ComponentLink1Description: Manufacturer URL; ComponentLink1URL: http://www.infineon.com/; ComponentLink2Description: Datasheet; ComponentLink2URL: http://www.infineon.com/dgdl/BTN8980TA-Data-Sheet-rev10-Infineon.pdf?folderId=db3a30431f848401011fcbf221ff04c3&fileId=db3a30433da668b6013da692a9c1003e; ComponentLink3Description: Package Specification; ComponentLink3URL: http://www.infineon.com/dgdl/TLE5205-2_DS_11%5B1%5D.pdf?folderId=db3a30431b3e89eb011bb632994f065b&fileId=db3a30431f848401011fc747c7a0797f&sId=db3a30433d68e984013d7d43135b5b6a
footprint INF-PG-TO263-7-1_N (DPAK, 8-Leads, Body 10x9.25mm, Pitch 1.27mm, IPC Medium Density)
footprint INF-PG-TO263-7-1_L (DPAK, 8-Leads, Body 10x9.25mm, Pitch 1.27mm, IPC High Density)
footprint INF-PG-TO263-7-1_M (DPAK, 8-Leads, Body 10x9.25mm, Pitch 1.27mm, IPC Low Density)
pins: 1 GND (power) "Ground", 2 IN (in) "Input Defines whether high- or lowside switch is activated", 3 INH (in) "Inhibit  When set to low device goes in sleep mode", 4 OUT (power) "Power output of the bridge", 5 SR (in) "Slew Rate The slew rate of the power switches can be adjusted by connecting  a resistor between SR and GND", 6 IS (out) "Current Sense and Diagnostics", 7 VS (power) "Supply", 8 OUT (power) "Power output of the bridge"

## BTN8982TA
designator U?
High Current PN Half Bridge, 5.5 to 40 V, 7 uA Iq, PG-TO263-7, Reel, Green; Manufacturer: Infineon; PartNumber: BTN8982TA; Diagnosis: OT, OC-failure flag, current sense; Green: TRUE; Group: NovalithIC; ID(lim): 77 A; ID(lim) (min): 55 A; Iq (typ): 7 uA; Protect: UV, OT, OC; RDS (on): 10; DatasheetVersion: Rev. 1.0; PackageVersion: May-07; PackageReference: PG-TO263-7-1; PackageDescription: 7-Pin Plastic (Green) Transistor Single Outline Package, 9.25 x 10 mm Body, 1.27 mm Pitch; Supplier 1: Mouser; Supplier Part Number 1: N/A; Halogen-free: TRUE; Inhibit: TRUE; Mounting: SMT; Operating Range: 5.5 to 40 V; Packing: Reel; Mounting Technology: Surface Mount; ComponentLink1Description: Manufacturer URL; ComponentLink1URL: http://www.infineon.com/; ComponentLink2Description: Datasheet; ComponentLink2URL: http://www.infineon.com/dgdl/BTN8982TA-Data-Sheet-rev10-Infineon.pdf?folderId=db3a30431ff98815012060aedcd46179&fileId=db3a30433fa9412f013fbe32289b7c17; ComponentLink3Description: Package Specification; ComponentLink3URL: http://www.infineon.com/dgdl/BTN8982TA-Data-Sheet-rev10-Infineon.pdf?folderId=db3a30431ff98815012060aedcd46179&fileId=db3a30433fa9412f013fbe32289b7c17&ack=t
footprint INF-PG-TO263-7-1_N (DPAK, 8-Leads, Body 10x9.25mm, Pitch 1.27mm, IPC Medium Density)
footprint INF-PG-TO263-7-1_L (DPAK, 8-Leads, Body 10x9.25mm, Pitch 1.27mm, IPC High Density)
footprint INF-PG-TO263-7-1_M (DPAK, 8-Leads, Body 10x9.25mm, Pitch 1.27mm, IPC Low Density)
pins: 1 GND (power) "Ground", 2 IN (in) "Input, Defines whether high- or lowside switch is activated", 3 ~{INH} (in) "Inhibit, When set to low device goes in sleep mode", 4 OUT (power) "Power output of the bridge", 5 SR (in) "Slew Rate, The slew rate of the power switches can be adjusted by connecting a resistor between SR and GND", 6 IS (out) "Current Sense and Diagnostics", 7 VS (power) "Supply", 8 OUT (power) "Power output of the bridge"

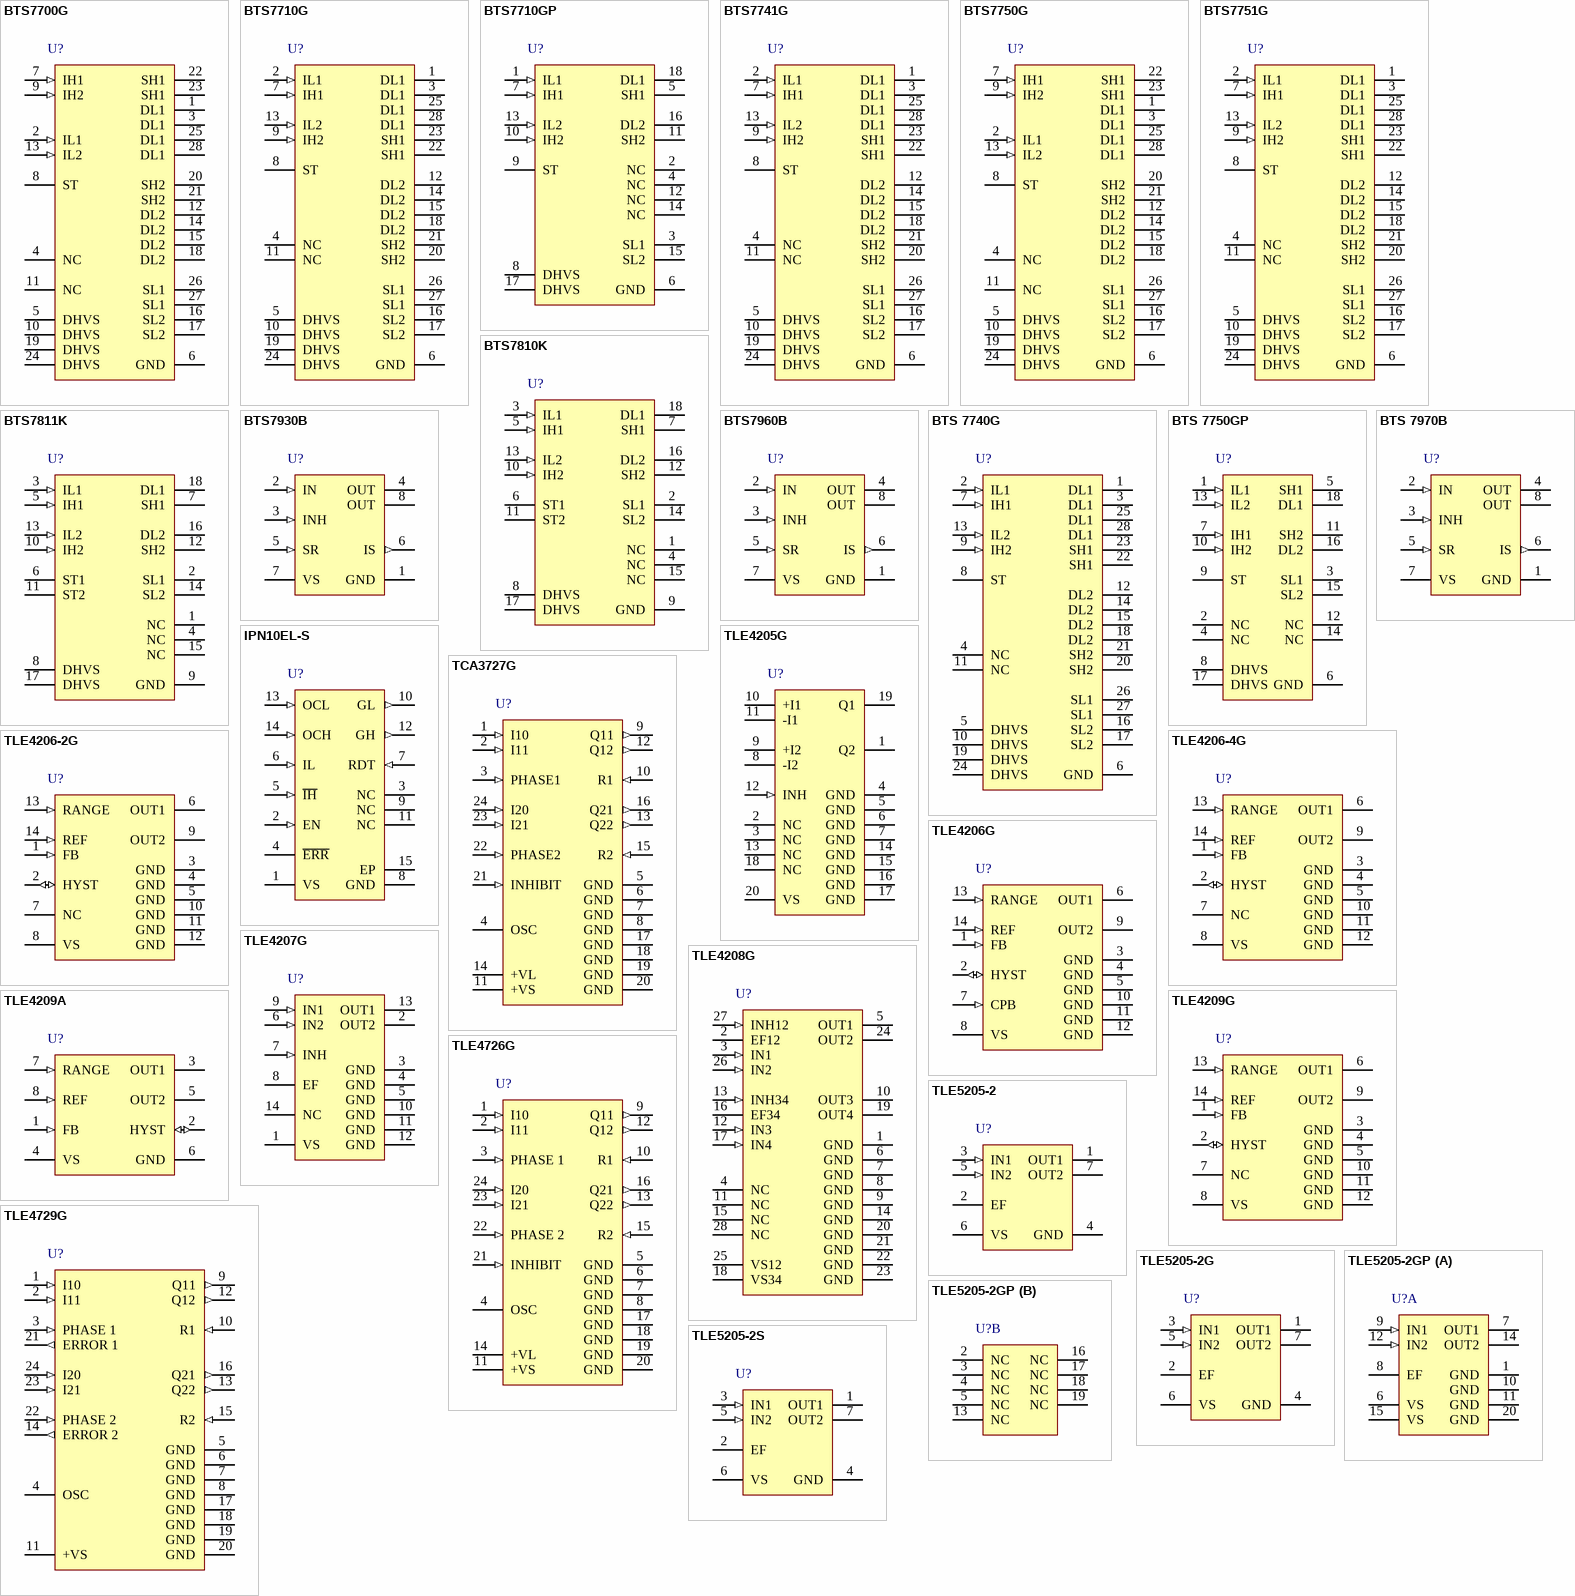
[diagram p1: symbols BTS7700G to TLE5205-2S]

## BTS7700G
designator U?
TrilithIC, -40 to 150 degC, P-DSO-28-14; Manufacturer: Infineon; PartNumber: BTS7700G; Green: FALSE; Iq (typ): 5 uA; PackageVersion: May-02; PackageReference: P-DSO-28-14; PackageDescription: 28-Pin Plastic Dual Small Outline Package, 17.9 x 7.5 mm Body, 1.27 mm Pitch; Supplier 1: Mouser; Supplier Part Number 1: 726-BTS7700G; Halogen-free: FALSE; Mounting Technology: Surface Mount; ComponentLink1Description: Manufacturer URL; ComponentLink1URL: http://www.infineon.com/; ComponentLink2Description: Datasheet; ComponentLink2URL: http://www.infineon.com/dgdl/BTS7700G_01-02-01.pdf?folderId=db3a304319c6f18c011a33d4469709f3&fileId=db3a304319c6f18c011a33d9e0c809f9&location=en.Products.Automotive_ICs.Motor_Drivers__Automotive_.Integrated_High_Current_Motor_Drivers__NovalithIC____Trilith_IC_.DATASHEET.BTS7700G_01-02-01.pdf; ComponentLink3Description: Package Specification; ComponentLink3URL: http://www.infineon.com/dgdl/BTS7710G_01-02-01.pdf?folderId=db3a304319c6f18c011a33d4469709f3&fileId=db3a304319c6f18c011a33d4f32e09f4&sId=db3a30443d67b5ca013d81e8b1c72d7d
footprint INF-P-DSO-28-14_N (SOP, 28-Leads, Body 17.7x3.9mm, Pitch 1.27mm, IPC Medium Density)
footprint INF-P-DSO-28-14_L (SOP, 28-Leads, Body 17.7x3.9mm, Pitch 1.27mm, IPC High Density)
footprint INF-P-DSO-28-14_M (SOP, 28-Leads, Body 17.7x3.9mm, Pitch 1.27mm, IPC Low Density)
pins: 1 DL1 (power) "Drain of low-side switch1, leadframe 1", 2 IL1 (in) "Analog input of low-side switch1", 3 DL1 (power) "Drain of low-side switch1, leadframe 1", 4 NC "not connected", 5 DHVS (power) "Drain of high-side switches and power supply voltage, leadframe", 6 GND (power) "Ground", 7 IH1 (in) "Digital input of high-side switch1", 8 ST (oc) "Status of high-side switches; open Drain output", 9 IH2 (in) "Digital input of high-side switch2", 10 DHVS (power) "Drain of high-side switches and power supply voltage, leadframe", 11 NC "not connected", 12 DL2 (power) "Drain of low-side switch2, leadframe 3", 13 IL2 (in) "Analog input of low-side switch2", 14 DL2 (power) "Drain of low-side switch2, leadframe 3", 15 DL2 (power) "Drain of low-side switch2, leadframe 3", 16 SL2 (power) "Source of low-side switch2", 17 SL2 (power) "Source of low-side switch2", 18 DL2 (power) "Drain of low-side switch2, leadframe 3", 19 DHVS (power) "Drain of high-side switches and power supply voltage, leadframe", 20 SH2 (power) "Source of high-side switch2", 21 SH2 (power) "Source of high-side switch2", 22 SH1 (power) "Source of high-side switch1", 23 SH1 (power) "Source of high-side switch1", 24 DHVS (power) "Drain of high-side switches and power supply voltage, leadframe", 25 DL1 (power) "Drain of low-side switch1, leadframe 1", 26 SL1 (power) "Source of low-side switch1", 27 SL1 (power) "Source of low-side switch1", 28 DL1 (power) "Drain of low-side switch1, leadframe 1"

## BTS7710G
designator U?
TrilithIC, 4.5 to 42 V, -40 to 150 degC, P-DSO-28-14, Reel; Manufacturer: Infineon; PartNumber: BTS7710G; Green: FALSE; ID(lim): 15 A; ID(lim) (min): 9 A; Iq (typ): 5 uA; Protect: OT, SC; RDS(on) (typ): 110 mOhm; VS (max): 42 V; PackageVersion: May-02; PackageReference: P-DSO-28-14; PackageDescription: 28-Pin Plastic Dual Small Outline Package, 17.9 x 7.5 mm Body, 1.27 mm Pitch; Supplier 1: Mouser; Supplier Part Number 1: 726-BTS7710G; Supplier 2: Digi-Key; Supplier Part Number 2: BTS7710GTR-ND; Supplier 3: Digi-Key; Supplier Part Number 3: BTS7710GCT-ND; Supplier 4: Digi-Key; Supplier Part Number 4: BTS7710GDKR-ND; Group: TrilithIC; Halogen-free: FALSE; Inhibit: FALSE; Operating Range: 4.5 to 42 V; Mounting Technology: Surface Mount; ComponentLink1Description: Manufacturer URL; ComponentLink1URL: http://www.infineon.com/; ComponentLink2Description: Datasheet; ComponentLink2URL: http://www.infineon.com/dgdl/BTS7710G_01-02-01.pdf?folderId=db3a304319c6f18c011a33d4469709f3&fileId=db3a304319c6f18c011a33d4f32e09f4&location=en.Products.Automotive_ICs.Motor_Drivers__Automotive_.Integrated_High_Current_Motor_Drivers__NovalithIC____Trilith_IC_.DATASHEET.BTS7710G_01-02-01.pdf; ComponentLink3Description: Package Specification; ComponentLink3URL: http://www.infineon.com/dgdl/BTS7710G_01-02-01.pdf?folderId=db3a304319c6f18c011a33d4469709f3&fileId=db3a304319c6f18c011a33d4f32e09f4&sId=db3a30443d67b5ca013d81e8b1c72d7d
footprint INF-P-DSO-28-14_N (SOP, 28-Leads, Body 17.7x3.9mm, Pitch 1.27mm, IPC Medium Density)
footprint INF-P-DSO-28-14_L (SOP, 28-Leads, Body 17.7x3.9mm, Pitch 1.27mm, IPC High Density)
footprint INF-P-DSO-28-14_M (SOP, 28-Leads, Body 17.7x3.9mm, Pitch 1.27mm, IPC Low Density)
pins: 1 DL1 (power) "Drain of low-side switch1, leadframe 1", 2 IL1 (in) "Analog input of low-side switch1", 3 DL1 (power) "Drain of low-side switch1, leadframe 1", 4 NC "not connected", 5 DHVS (power) "Drain of high-side switches and power supply voltage, leadframe 2", 6 GND (power) "Ground", 7 IH1 (in) "Digital input of high-side switch1", 8 ST (oc) "Status of high-side switches; open Drain output", 9 IH2 (in) "Digital input of high-side switch2", 10 DHVS (power) "Drain of high-side switches and power supply voltage, leadframe 2", 11 NC "not connected", 12 DL2 (power) "Drain of low-side switch2, leadframe 3", 13 IL2 (in) "Analog input of low-side switch2", 14 DL2 (power) "Drain of low-side switch2, leadframe 3", 15 DL2 (power) "Drain of low-side switch2, leadframe 3", 16 SL2 (power) "Source of low-side switch2", 17 SL2 (power) "Source of low-side switch2", 18 DL2 (power) "Drain of low-side switch2, leadframe 3", 19 DHVS (power) "Drain of high-side switches and power supply voltage, leadframe 2", 20 SH2 (power) "Source of high-side switch2", 21 SH2 (power) "Source of high-side switch2", 22 SH1 (power) "Source of high-side switch1", 23 SH1 (power) "Source of high-side switch1", 24 DHVS (power) "Drain of high-side switches and power supply voltage, leadframe 2", 25 DL1 (power) "Drain of low-side switch1, leadframe 1", 26 SL1 (power) "Source of low-side switch1", 27 SL1 (power) "Source of low-side switch1", 28 DL1 (power) "Drain of low-side switch1, leadframe 1"

## BTS7710GP
designator U?
TrilithIC, 4.5 to 42 V, -40 to 150 degC, P-TO263-15-1, Reel; Manufacturer: Infineon; PartNumber: BTS7710GP; Green: FALSE; ID(lim): 15 A; ID(lim) (min): 9 A; Iq (typ): 5 uA; Protect: OT, SC; RDS(on) (typ): 110 mOhm; VS (max): 42 V; PackageVersion: Mar-03; PackageReference: P-TO263-15-1; PackageDescription: 15-Pin Plastic Transistor Single Outline Package, 21.6 x 9.25 mm Body, 1.4 mm Pitch; Supplier 1: Digi-Key; Supplier Part Number 1: BTS7710GPT-ND; Group: TrilithIC; Halogen-free: FALSE; Inhibit: FALSE; Operating Range: 4.5 to 42 V; Mounting Technology: Surface Mount; ComponentLink1Description: Manufacturer URL; ComponentLink1URL: http://www.infineon.com/; ComponentLink2Description: Datasheet; ComponentLink2URL: http://www.infineon.com/dgdl/BTS7710GP01-02-01.pdf?folderId=db3a304412b407950112b439795e6e02&fileId=db3a304412b407950112b43979e96e03&location=en.Products.Automotive_ICs.Motor_Drivers__Automotive_.Integrated_High_Current_Motor_Drivers__NovalithIC____Trilith_IC_.DATASHEET.BTS7710GP01-02-01.pdf; ComponentLink3Description: Package Specification; ComponentLink3URL: http://www.infineon.com/dgdl/BTS7810K_11-03-2003.pdf?folderId=db3a304412b407950112b439834a6e16&fileId=db3a304412b407950112b43983d56e17&sId=db3a30433db1c06a013db463a2ae1455
footprint INF-P-TO263-15-1_V (TO263, 15-Leads, Body 21.6x9.25mm, Pitch 1.4mm)
pins: 1 IL1 (in) "Analog input of low-side switch 1", 2 NC "Not connected", 3 SL1 (power) "Source of low-side switch 1", 4 NC "Not connected", 5 SH1 (power) "Source of high-side switch 1", 6 GND (power) "Ground of high-side switches", 7 IH1 (in) "Digital input of high-side switch 1", 8 DHVS (power) "Drain of high-side switches and power supply voltage", 9 ST (oc) "Status; open Drain output.", 10 IH2 (in) "Digital input of high-side switch 2", 11 SH2 (power) "Source of high-side switch 2", 12 NC "Not connected", 13 IL2 (in) "Analog input of low-side switch 2", 14 NC "Not connected", 15 SL2 (power) "Source of low-side switch 2", 16 DL2 (power) "Drain of low-side switch 2 Heat-Slug 3 or Heat-Disssipator.", 17 DHVS (power) "Drain of high-side switches and power supply voltage Heat-Slug 2 or Heat-Dissipator.", 18 DL1 (power) "Drain of low-side switch 1 Heat-Slug 1 or Heat-Dissipator"

## BTS7741G
designator U?
TrilithIC, 4.8 to 42 V, -40 to 150 degC, P-DSO-28-14; Manufacturer: Infineon; PartNumber: BTS7741G; Green: FALSE; ID(lim): 10 A; ID(lim) (min): 6 A; Iq (typ): 5 uA; Protect: OT, SC; RDS(on) (typ): 210 mOhm; VS (max): 42 V; PackageVersion: May-02; PackageReference: P-DSO-28-14; PackageDescription: 28-Pin Plastic Dual Small Outline Package, 17.9 x 7.5 mm Body, 1.27 mm Pitch; Supplier 1: Mouser; Supplier Part Number 1: 726-BTS7741G; Supplier 2: Digi-Key; Supplier Part Number 2: BTS7741G-ND; Group: TrilithIC; Halogen-free: FALSE; Inhibit: FALSE; Operating Range: 4.8 to 42 V; Mounting Technology: Surface Mount; ComponentLink1Description: Manufacturer URL; ComponentLink1URL: http://www.infineon.com/; ComponentLink2Description: Datasheet; ComponentLink2URL: http://www.infineon.com/dgdl/BTS7741G_03-03-06.pdf?folderId=db3a304412b407950112b4397e4b6e0c&fileId=db3a304412b407950112b4397ed56e0d&location=en.Products.Automotive_ICs.Motor_Drivers__Automotive_.Integrated_High_Current_Motor_Drivers__NovalithIC____Trilith_IC_.DATASHEET.BTS7741G_03-03-06.pdf; ComponentLink3Description: Package Specification; ComponentLink3URL: http://www.infineon.com/dgdl/BTS7710G_01-02-01.pdf?folderId=db3a304319c6f18c011a33d4469709f3&fileId=db3a304319c6f18c011a33d4f32e09f4&sId=db3a30443d67b5ca013d81e8b1c72d7d
footprint INF-P-DSO-28-14_N (SOP, 28-Leads, Body 17.7x3.9mm, Pitch 1.27mm, IPC Medium Density)
footprint INF-P-DSO-28-14_L (SOP, 28-Leads, Body 17.7x3.9mm, Pitch 1.27mm, IPC High Density)
footprint INF-P-DSO-28-14_M (SOP, 28-Leads, Body 17.7x3.9mm, Pitch 1.27mm, IPC Low Density)
pins: 1 DL1 (power) "Drain of low-side switch1, leadframe 1", 2 IL1 (in) "Analog input of low-side switch1", 3 DL1 (power) "Drain of low-side switch1, leadframe 1", 4 NC "not connected", 5 DHVS (power) "Drain of high-side switches and power supply voltage, leadframe 2", 6 GND (power) "Ground", 7 IH1 (in) "Digital input of high-side switch1", 8 ST (oc) "Status of high-side switches; open Drain output", 9 IH2 (in) "Digital input of high-side switch2", 10 DHVS (power) "Drain of high-side switches and power supply voltage, leadframe 2", 11 NC "not connected", 12 DL2 (power) "Drain of low-side switch2, leadframe 3", 13 IL2 (in) "Analog input of low-side switch2", 14 DL2 (power) "Drain of low-side switch2, leadframe 3", 15 DL2 (power) "Drain of low-side switch2, leadframe 3", 16 SL2 (power) "Source of low-side switch2", 17 SL2 (power) "Source of low-side switch2", 18 DL2 (power) "Drain of low-side switch2, leadframe 3", 19 DHVS (power) "Drain of high-side switches and power supply voltage, leadframe 2", 20 SH2 (power) "Source of high-side switch2", 21 SH2 (power) "Source of high-side switch2", 22 SH1 (power) "Source of high-side switch1", 23 SH1 (power) "Source of high-side switch1", 24 DHVS (power) "Drain of high-side switches and power supply voltage, leadframe 2", 25 DL1 (power) "Drain of low-side switch1, leadframe 1", 26 SL1 (power) "Source of low-side switch1", 27 SL1 (power) "Source of low-side switch1", 28 DL1 (power) "Drain of low-side switch1, leadframe 1"

## BTS7750G
designator U?
TrilithIC, -40 to 150 degC, P-DSO-28-14; Manufacturer: Infineon; PartNumber: BTS7750G; Green: FALSE; Iq (typ): 5 uA; PackageVersion: May-02; PackageReference: P-DSO-28-14; PackageDescription: 28-Pin Plastic Dual Small Outline Package, 17.9 x 7.5 mm Body, 1.27 mm Pitch; Supplier 1: Mouser; Supplier Part Number 1: 726-BTS7750G; Halogen-free: FALSE; Mounting Technology: Surface Mount; ComponentLink1Description: Manufacturer URL; ComponentLink1URL: http://www.infineon.com/; ComponentLink2Description: Datasheet; ComponentLink2URL: http://www.infineon.com/dgdl/BTS7750G01-02-01.pdf?folderId=db3a304412b407950112b43976f96dfd&fileId=db3a304412b407950112b43977856dfe&location=en.Products.Automotive_ICs.Motor_Drivers__Automotive_.Integrated_High_Current_Motor_Drivers__NovalithIC____Trilith_IC_.DATASHEET.BTS7750G01-02-01.pdf; ComponentLink3Description: Package Specification; ComponentLink3URL: http://www.infineon.com/dgdl/BTS7710G_01-02-01.pdf?folderId=db3a304319c6f18c011a33d4469709f3&fileId=db3a304319c6f18c011a33d4f32e09f4&sId=db3a30443d67b5ca013d81e8b1c72d7d
footprint INF-P-DSO-28-14_N (SOP, 28-Leads, Body 17.7x3.9mm, Pitch 1.27mm, IPC Medium Density)
footprint INF-P-DSO-28-14_L (SOP, 28-Leads, Body 17.7x3.9mm, Pitch 1.27mm, IPC High Density)
footprint INF-P-DSO-28-14_M (SOP, 28-Leads, Body 17.7x3.9mm, Pitch 1.27mm, IPC Low Density)
pins: 1 DL1 (power) "Drain of low-side switch1, leadframe 1", 2 IL1 (in) "Analog input of low-side switch1", 3 DL1 (power) "Drain of low-side switch1, leadframe 1", 4 NC "not connected", 5 DHVS (power) "Drain of high-side switches and power supply voltage, leadframe", 6 GND (power) "Ground", 7 IH1 (in) "Digital input of high-side switch1", 8 ST (oc) "Status of high-side switches; open Drain output", 9 IH2 (in) "Digital input of high-side switch2", 10 DHVS (power) "Drain of high-side switches and power supply voltage, leadframe", 11 NC "not connected", 12 DL2 (power) "Drain of low-side switch2, leadframe 3", 13 IL2 (in) "Analog input of low-side switch2", 14 DL2 (power) "Drain of low-side switch2, leadframe 3", 15 DL2 (power) "Drain of low-side switch2, leadframe 3", 16 SL2 (power) "Source of low-side switch2", 17 SL2 (power) "Source of low-side switch2", 18 DL2 (power) "Drain of low-side switch2, leadframe 3", 19 DHVS (power) "Drain of high-side switches and power supply voltage, leadframe", 20 SH2 (power) "Source of high-side switch2", 21 SH2 (power) "Source of high-side switch2", 22 SH1 (power) "Source of high-side switch1", 23 SH1 (power) "Source of high-side switch1", 24 DHVS (power) "Drain of high-side switches and power supply voltage, leadframe", 25 DL1 (power) "Drain of low-side switch1, leadframe 1", 26 SL1 (power) "Source of low-side switch1", 27 SL1 (power) "Source of low-side switch1", 28 DL1 (power) "Drain of low-side switch1, leadframe 1"

## BTS7751G
designator U?
TrilithIC, 4.8 to 42 V, -40 to 150 degC, P-DSO-28-14; Manufacturer: Infineon; PartNumber: BTS7751G; Green: FALSE; ID(lim): 15 A; ID(lim) (min): 8 A; Iq (typ): 5 uA; Protect: OT, SC; RDS(on) (typ): 115 mOhm; VS (max): 42 V; PackageVersion: May-02; PackageReference: P-DSO-28-14; PackageDescription: 28-Pin Plastic Dual Small Outline Package, 17.9 x 7.5 mm Body, 1.27 mm Pitch; Supplier 1: Mouser; Supplier Part Number 1: 726-BTS7751G; Supplier 2: Digi-Key; Supplier Part Number 2: BTS7751G-ND; Group: TrilithIC; Halogen-free: FALSE; Inhibit: FALSE; Operating Range: 4.8 to 42 V; Mounting Technology: Surface Mount; ComponentLink1Description: Manufacturer URL; ComponentLink1URL: http://www.infineon.com/; ComponentLink2Description: Datasheet; ComponentLink2URL: http://www.infineon.com/dgdl/BTS7751G_03-03-06.pdf?folderId=db3a304412b407950112b43980cf6e11&fileId=db3a304412b407950112b439815a6e12&location=en.Products.Automotive_ICs.Motor_Drivers__Automotive_.Integrated_High_Current_Motor_Drivers__NovalithIC____Trilith_IC_.DATASHEET.BTS7751G_03-03-06.pdf; ComponentLink3Description: Package Specification; ComponentLink3URL: http://www.infineon.com/dgdl/BTS7710G_01-02-01.pdf?folderId=db3a304319c6f18c011a33d4469709f3&fileId=db3a304319c6f18c011a33d4f32e09f4&sId=db3a30443d67b5ca013d81e8b1c72d7d
footprint INF-P-DSO-28-14_N (SOP, 28-Leads, Body 17.7x3.9mm, Pitch 1.27mm, IPC Medium Density)
footprint INF-P-DSO-28-14_L (SOP, 28-Leads, Body 17.7x3.9mm, Pitch 1.27mm, IPC High Density)
footprint INF-P-DSO-28-14_M (SOP, 28-Leads, Body 17.7x3.9mm, Pitch 1.27mm, IPC Low Density)
pins: 1 DL1 (power) "Drain of low-side switch1, leadframe 1", 2 IL1 (in) "Analog input of low-side switch1", 3 DL1 (power) "Drain of low-side switch1, leadframe 1", 4 NC "not connected", 5 DHVS (power) "Drain of high-side switches and power supply voltage, leadframe 2", 6 GND (power) "Ground", 7 IH1 (in) "Digital input of high-side switch1", 8 ST (oc) "Status of high-side switches; open Drain output", 9 IH2 (in) "Digital input of high-side switch2", 10 DHVS (power) "Drain of high-side switches and power supply voltage, leadframe 2", 11 NC "not connected", 12 DL2 (power) "Drain of low-side switch2, leadframe 3", 13 IL2 (in) "Analog input of low-side switch2", 14 DL2 (power) "Drain of low-side switch2, leadframe 3", 15 DL2 (power) "Drain of low-side switch2, leadframe 3", 16 SL2 (power) "Source of low-side switch2", 17 SL2 (power) "Source of low-side switch2", 18 DL2 (power) "Drain of low-side switch2, leadframe 3", 19 DHVS (power) "Drain of high-side switches and power supply voltage, leadframe 2", 20 SH2 (power) "Source of high-side switch2", 21 SH2 (power) "Source of high-side switch2", 22 SH1 (power) "Source of high-side switch1", 23 SH1 (power) "Source of high-side switch1", 24 DHVS (power) "Drain of high-side switches and power supply voltage, leadframe 2", 25 DL1 (power) "Drain of low-side switch1, leadframe 1", 26 SL1 (power) "Source of low-side switch1", 27 SL1 (power) "Source of low-side switch1", 28 DL1 (power) "Drain of low-side switch1, leadframe 1"